# EAGLE library part AD8253ARMZ (library ad8253)
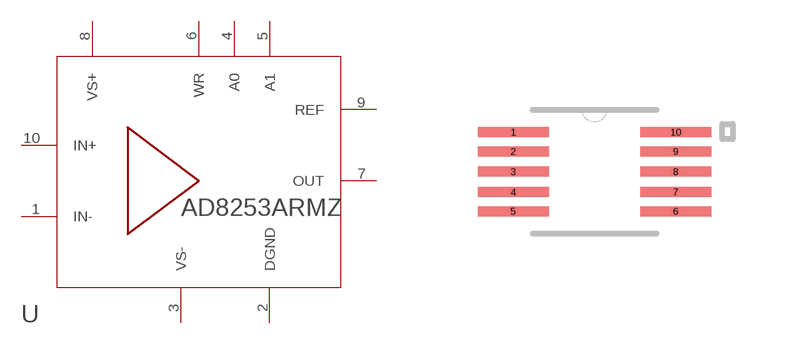
[diagram p0: symbol with the pads of RM_10; footprint RM_10]

Designator prefix U

## AD8253ARMZ (MANUFACTURER_PART_NUMBER: AD8253ARMZ; VENDOR: Vendor)  [RM_10]
1  IN-  pas
2  DGND  pas
3  VS-  pwr
4  A0  pas
5  A1  pas
6  WR  pas
7  OUT  pas
8  VS+  pwr
9  REF  pas
10  IN+  pas

## Footprint RM_10 (pad centres in mm)
smd 1.778 x 0.25: 1 -2.032,0.991; 2 -2.032,0.508; 3 -2.032,0; 4 -2.032,-0.508; 5 -2.032,-0.991; 6 2.032,-0.991; 7 2.032,-0.508; 8 2.032,0; 9 2.032,0.508; 10 2.032,0.991